# EAGLE library part PIC18F1*K50-I/? (library kiks-ic)
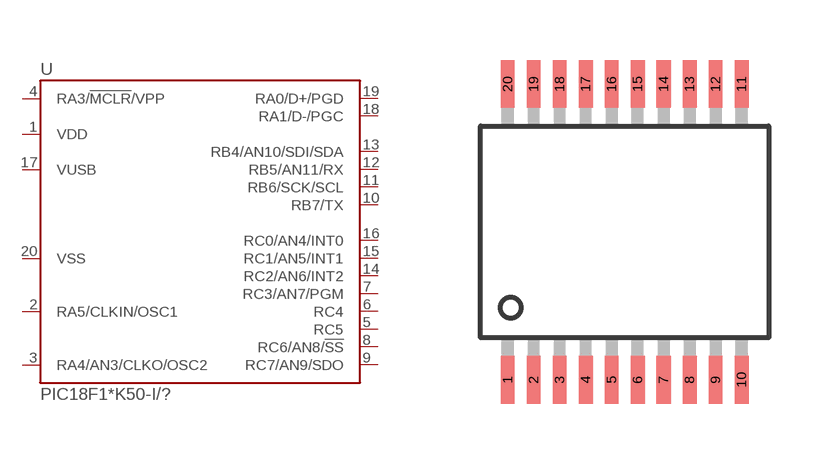
[diagram p11: symbol with the pads of SSOP20; footprint SSOP20]

Designator prefix U

## PIC18F13K50-I/SS, PIC18F14K50-I/SS  [SSOP20]
1  VDD
2  RA5/CLKIN/OSC1
3  RA4/AN3/CLKO/OSC2
4  RA3/!MCLR!/VPP
5  RC5
6  RC4
7  RC3/AN7/PGM
8  RC6/AN8/!SS!
9  RC7/AN9/SDO
10  RB7/TX
11  RB6/SCK/SCL
12  RB5/AN11/RX
13  RB4/AN10/SDI/SDA
14  RC2/AN6/INT2
15  RC1/AN5/INT1
16  RC0/AN4/INT0
17  VUSB
18  RA1/D-/PGC
19  RA0/D+/PGD
20  VSS

## Footprint SSOP20 (pad centres in mm)
smd 0.35 x 1.2: 1 -2.925,-3.7; 2 -2.275,-3.7; 3 -1.625,-3.7; 4 -0.975,-3.7; 5 -0.325,-3.7; 6 0.325,-3.7; 7 0.975,-3.7; 8 1.625,-3.7; 9 2.275,-3.7; 10 2.925,-3.7; 11 2.925,3.7; 12 2.275,3.7; 13 1.625,3.7; 14 0.975,3.7; 15 0.325,3.7; 16 -0.325,3.7; 17 -0.975,3.7; 18 -1.625,3.7; 19 -2.275,3.7; 20 -2.925,3.7